# Altium footprint library ERA-8AEB151V.PcbLib: 2 footprints
Each footprint in its own frame and in the unit in brackets; x right, y up, seen from the top. Pads: shape width x height; smd on the part's side, far side on the other; paste and mask are expansions set on the pad; w line width, h text height; cw(c..) or ccw(c..) is an arc to the next point about the centre after c.
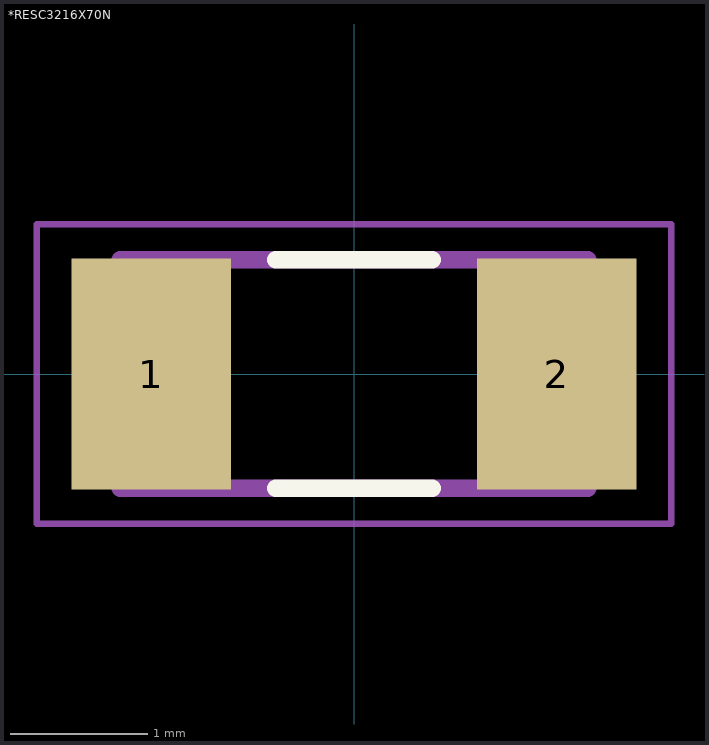
[diagram p0: the footprints below, top view; thin cyan lines are the x and y axes]

## *RESC3216X70N [mm]
pads (2):
  rect 1.16x1.68 smd: 1(-1.475,0) 2(1.475,0)
Top Overlay:
  lines w0.127: -0.57,-0.83 0.57,-0.83 ; -0.57,0.83 0.57,0.83
Mechanical 4:
  lines w0.127: -1.7,-0.83 -1.7,0.83 ; -1.7,-0.83 1.7,-0.83 ; -1.7,-0.83 -1.7,0.83 ; -1.7,-0.83 1.7,-0.83 ; -1.7,0.83 1.7,0.83 ; -1.7,0.83 1.7,0.83 ; 1.7,-0.83 1.7,0.83 ; 1.7,-0.83 1.7,0.83
Mechanical 16:
  lines w0.05: -2.308,-1.09 -2.308,1.09 2.308,1.09 2.308,-1.09 -2.308,-1.09

## PCBComponent_1 [mm]